# EAGLE library part WE-BPFB (library wurth_elektronik_passive_rev16d)
Multilayer-SMD Band-Pass Filter + Balun WE-BPFB
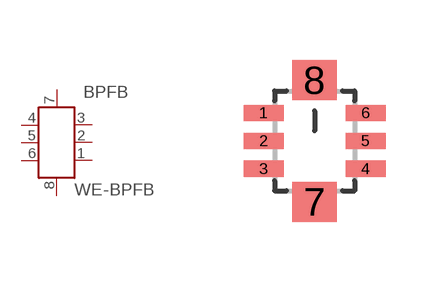
[diagram p1: symbol with the pads of WE-BPFB_748358024; footprint WE-BPFB_748358024]

Designator prefix BPFB

## WE-BPFB_1008_748358024  [WE-BPFB_748358024]
1  1  pas
2  2  pas
3  3  pas
4  4  pas
5  5  pas
6  6  pas
7  7  pas
8  8  pas

## Footprint WE-BPFB_748358024 (pad centres in mm)
Multilayer SMD Band-Pass Filter with Balun WE-BPFB
smd 1 x 0.4: 1 -1.275,0.7; 2 -1.275,0; 3 -1.275,-0.7; 4 1.275,-0.7; 5 1.275,0; 6 1.275,0.7
smd 1.1 x 1: 7 0,-1.525; 8 0,1.525